# Altium footprint library SN74LVC2G241DCUR.PcbLib: 1 footprints
Each footprint in its own frame and in the unit in brackets; x right, y up, seen from the top. Pads: shape width x height; smd on the part's side, far side on the other; paste and mask are expansions set on the pad; w line width, h text height; cw(c..) or ccw(c..) is an arc to the next point about the centre after c.
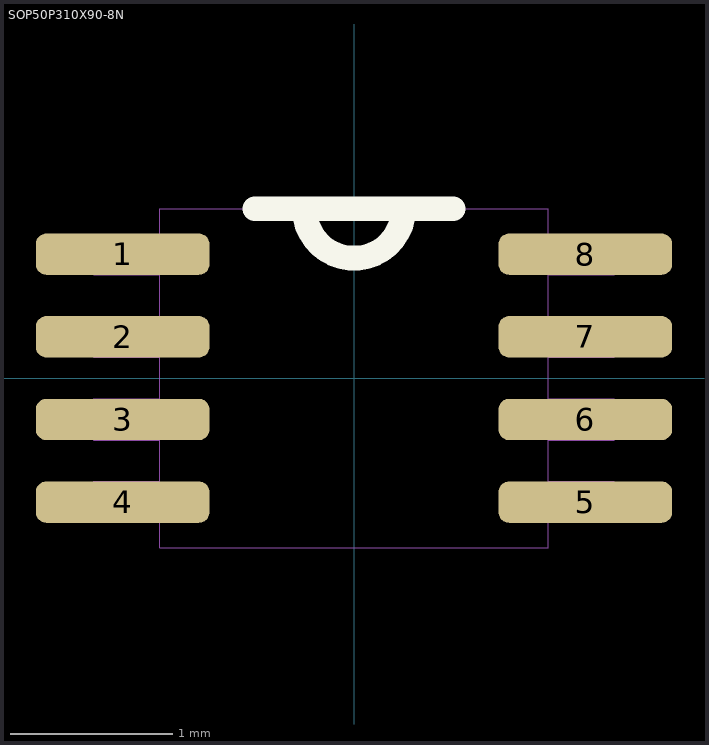
[diagram p0: the footprint, top view; thin cyan lines are the x and y axes]

## SOP50P310X90-8N [mil]
pads (8):
  rrect50% 42x10 smd: 1(-56,30) 2(-56,10) 3(-56,-10) 4(-56,-30) 5(56,-30) 6(56,-10) 7(56,10) 8(56,30)
Top Overlay:
  lines w6: -24,41 -12,41 ; 24,41 12,41 ; -12,41 ccw(c0,41) 12,41 ; -12,41 12,41
Mechanical 13:
  lines w0: -12,41 ccw(c0,41) 12,41 ; -12,41 12,41 ; -12,41 -47,41 -47,-41 47,-41 47,41 12,41 ; -63,-34 -63,-25 -47,-25 -47,-34 -63,-34 ; -63,-15 -63,-5 -47,-5 -47,-15 -63,-15 ; -63,5 -63,15 -47,15 -47,5 -63,5 ; -63,25 -63,34 -47,34 -47,25 -63,25 ; 47,-34 47,-25 63,-25 63,-34 47,-34 ; 47,-15 47,-5 63,-5 63,-15 47,-15 ; 47,5 47,15 63,15 63,5 47,5 ; 47,25 47,34 63,34 63,25 47,25
3D body "ADS7042IDCUR--3DModel-STEP-56544.STEP": height 33.78, standoff -1.65, extent -61.02,-39.36 61.02,39.38